# Altium footprint library PassiveComponents.PcbLib: 57 footprints (part 1 of 4)
Each footprint in its own frame and in the unit in brackets; x right, y up, seen from the top. Pads: shape width x height; smd on the part's side, far side on the other; paste and mask are expansions set on the pad; w line width, h text height; cw(c..) or ccw(c..) is an arc to the next point about the centre after c.
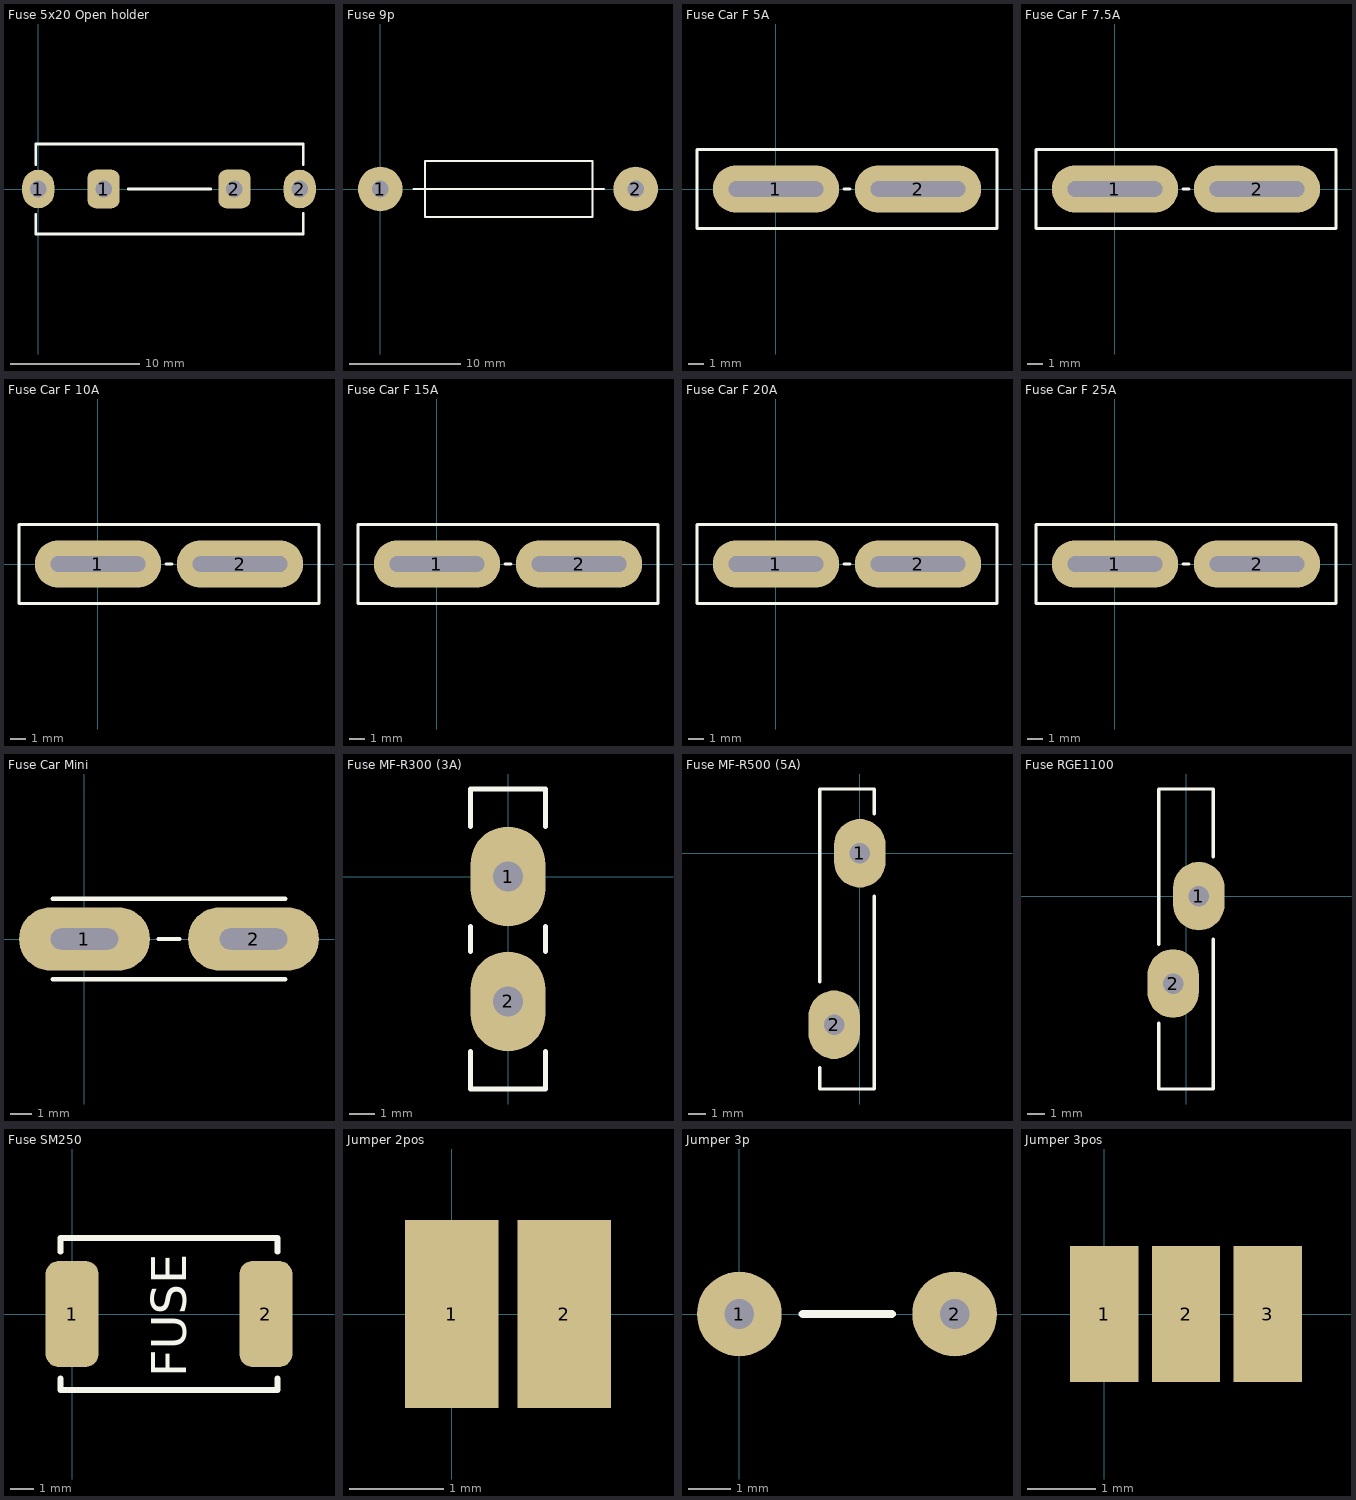
[diagram p0: the footprints below, top view; thin cyan lines are the x and y axes]

## Fuse 5x20 Open holder [mm] "Fuse horisontal"
height 10
pads (4):
  oval 2.5x3 hole 1.3: 1(0,0) 2(20.32,0)
  rrect50% 2.5x3 hole 1.3: 1(5.08,0) 2(15.24,0)
Top Overlay:
  lines w0.2: -0.2,-1.96 -0.2,-3.5 20.6,-3.5 20.6,-1.9 ; -0.2,1.9 -0.2,3.5 20.6,3.5 20.6,1.9 ; 7,0 13.4,0
3D body "Open fuse holder - FH-100 5x20.STEP": height 9.99, standoff -3.5, extent -0.24,-3.5 20.56,3.5

## Fuse 9p [mm] "Fuse horisontal"
height 14
pads (2):
  round 4 hole 1.5: 1(0,0) 2(22.86,0)
Top Overlay:
  lines w0.2: 3,0 20,0 ; 4,-2.5 4,-0.46 4,2.5 19,2.5 19,-2.5 4,-2.5
3D body "Fuse_Holder.STEP": height 13.44, standoff -5.4, extent -0.14,-4.5 23.02,4.5

## Fuse Car F 5A [mm] "Fuse horisontal"
height 10
pads (2):
  oval 8x3 hole 1 slot 6 at 0 deg: 1(0,0) 2(9,0)
Top Overlay:
  lines w0.2: 4.3,0 4.7,0 ; -5,-2.5 -5,2.5 14,2.5 14,-2.5 -5,-2.5
3D body "Fuse Car Full 5A.step": height 13, standoff -6.38, extent -5.025,-2.54 14.025,2.54

## Fuse Car F 7.5A [mm] "Fuse horisontal"
height 10
pads (2):
  oval 8x3 hole 1 slot 6 at 0 deg: 1(0,0) 2(9,0)
Top Overlay:
  lines w0.2: 4.3,0 4.7,0 ; -5,-2.5 -5,2.5 14,2.5 14,-2.5 -5,-2.5
3D body "Fuse Car Full 7-5A.step": height 13, standoff -6.38, extent -5.025,-2.54 14.025,2.54

## Fuse Car F 10A [mm] "Fuse horisontal"
height 10
pads (2):
  oval 8x3 hole 1 slot 6 at 0 deg: 1(0,0) 2(9,0)
Top Overlay:
  lines w0.2: 4.3,0 4.7,0 ; -5,-2.5 -5,2.5 14,2.5 14,-2.5 -5,-2.5
3D body "Fuse Car Full 10A.step": height 13, standoff -6.38, extent -5.025,-2.54 14.025,2.54

## Fuse Car F 15A [mm] "Fuse horisontal"
height 10
pads (2):
  oval 8x3 hole 1 slot 6 at 0 deg: 1(0,0) 2(9,0)
Top Overlay:
  lines w0.2: 4.3,0 4.7,0 ; -5,-2.5 -5,2.5 14,2.5 14,-2.5 -5,-2.5
3D body "Fuse Car Full 15A.step": height 13, standoff -6.38, extent -5.025,-2.54 14.025,2.54

## Fuse Car F 20A [mm] "Fuse horisontal"
height 10
pads (2):
  oval 8x3 hole 1 slot 6 at 0 deg: 1(0,0) 2(9,0)
Top Overlay:
  lines w0.2: 4.3,0 4.7,0 ; -5,-2.5 -5,2.5 14,2.5 14,-2.5 -5,-2.5
3D body "Fuse Car Full 20A.step": height 13, standoff -6.38, extent -5.025,-2.54 14.025,2.54

## Fuse Car F 25A [mm] "Fuse horisontal"
height 10
pads (2):
  oval 8x3 hole 1 slot 6 at 0 deg: 1(0,0) 2(9,0)
Top Overlay:
  lines w0.2: 4.3,0 4.7,0 ; -5,-2.5 14,-2.5 14,2.5 -5,2.5 -5,-2.5
3D body "Fuse Car Full 25A.step": height 13, standoff -6.38, extent -5.025,-2.54 14.025,2.54

## Fuse Car Mini [mm] "Fuse horisontal"
height 10
pads (2):
  oval 6.2x3 hole 1 slot 3.2 at 0 deg: 1(0,0) 2(8,0)
Top Overlay:
  lines w0.2: -1.5,-1.9 9.5,-1.9 ; -1.5,1.9 9.5,1.9 ; 3.5,0 4.5,0
3D body "Fuse Car Mini.step": height 9.8, standoff -7.13, extent -1.45,-1.909 9.45,1.9

## Fuse MF-R300 (3A) [mm] "Resettable 11A"
height 26
pads (2):
  oval 3x4 hole 1.2: 1(0,0) 2(0,-5)
Top Overlay:
  lines w0.2: -1.5,-7 -1.5,-8.5 1.5,-8.5 1.5,-7 ; -1.5,-3 -1.5,-2 ; -1.5,2 -1.5,3.5 1.5,3.5 1.5,2 ; 1.5,-3 1.5,-2
3D body "Resettable RU110F.step": height 15, standoff -3.22, extent -1.529,-6.191 1.43,1.391

## Fuse MF-R500 (5A) [mm] "Resettable 11A"
height 26
pads (2):
  oval 3x4 hole 1.2: 1(0,0) 2(-1.5,-10)
Top Overlay:
  lines w0.2: -2.35,-12.5 -2.35,-13.75 0.85,-13.75 0.85,-2.5 ; -2.35,-7.5 -2.35,3.75 0.85,3.75 0.85,2.3
3D body "MF-RHT1000.step": height 26.01, standoff -3.76, extent -2.21,-13.75 0.71,3.75

## Fuse RGE1100 [mm] "Resettable 11A"
height 26
pads (2):
  oval 3x4 hole 1.2: 1(0.75,0) 2(-0.75,-5.1)
Top Overlay:
  lines w0.2: -1.6,-11.25 1.6,-11.25 1.6,-2.5 ; -1.6,-11.2 -1.6,-7.4 ; -1.6,-2.8 -1.6,6.2 ; -1.6,6.25 1.6,6.25 ; 1.6,2.3 1.6,6.2
3D body "MF-RHT1000.step": height 26.01, standoff -3.76, extent -1.46,-11.3 1.46,6.2

## Fuse SM250 [mm] "Resettable 11A"
height 26
pads (2):
  rrect50% 2.3x4.6 smd: 1(0,0) 2(8.4,0)
Top Overlay:
  lines w0.254: -0.5,-2.8 -0.5,-3.3 8.9,-3.3 8.9,-2.8 ; -0.5,2.7 -0.5,3.3 8.9,3.3 8.9,2.7
  text "FUSE" at 4.946,-2.746 h1.52
3D body "Fuse SM200.step": height 3, standoff 0, extent -0.5,-3.35 8.9,3.36

## Jumper 2pos [mm]
pads (2):
  rect 1x2 smd: 1(0,0) 2(1.2,0)

## Jumper 3p [mm]
height 1
pads (2):
  round 2 hole 0.7: 1(0,0) 2(5.08,0)
Top Overlay:
  lines w0.2: 1.5,0 3.6,0

## Jumper 3pos [mm]
pads (3):
  rect 1x2 smd: 1(0,0) 2(1.2,0) 3(2.4,0)